# EAGLE library part 8X8_MATRIX_LED (library MlabPaja)
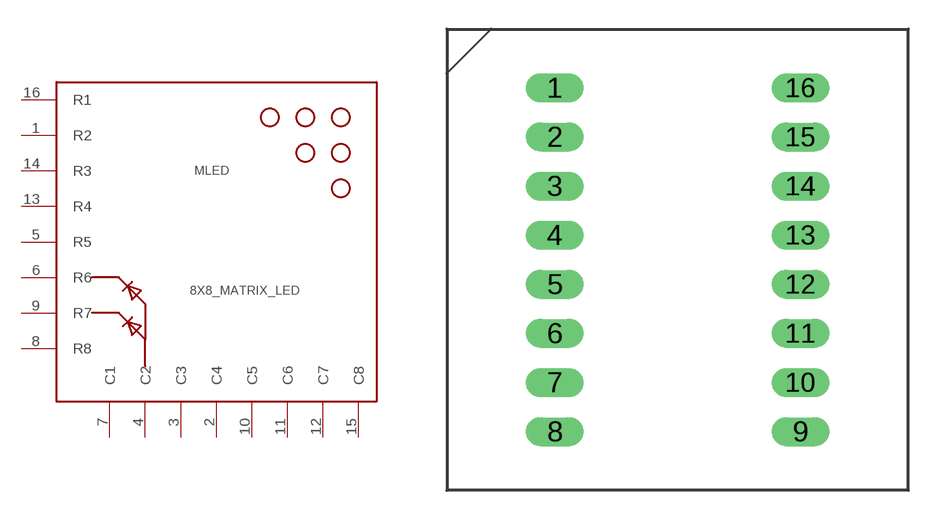
[diagram p0: symbol with the pads of 8X8_MATRIX_LED; footprint 8X8_MATRIX_LED]

Designator prefix MLED

## 8X8_MATRIX_LED  [8X8_MATRIX_LED]
1  R2  pas
2  C4  pas
3  C3  pas
4  C2  pas
5  R5  pas
6  R6  pas
7  C1  pas
8  R8  pas
9  R7  pas
10  C5  pas
11  C6  pas
12  C7  pas
13  R4  pas
14  R3  pas
15  C8  pas
16  R1  pas

## Footprint 8X8_MATRIX_LED (pad centres in mm)
Dual In Line Package
drill 1 long: 1 -6.35,8.89; 2 -6.35,6.35; 3 -6.35,3.81; 4 -6.35,1.27; 5 -6.35,-1.27; 6 -6.35,-3.81; 7 -6.35,-6.35; 8 -6.35,-8.89; 9 6.35,-8.89; 10 6.35,-6.35; 11 6.35,-3.81; 12 6.35,-1.27; 13 6.35,1.27; 14 6.35,3.81; 15 6.35,6.35; 16 6.35,8.89